# EAGLE library part KIS-3R33S (library KIS-3R33S)
DC-DC Converter
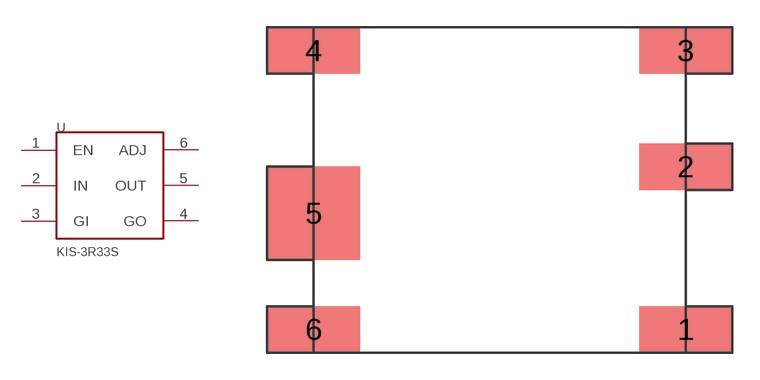
[diagram p0: symbol with the pads of KIS-3R33S; footprint KIS-3R33S]

Designator prefix -

## KIS-3R33S  [KIS-3R33S]
1  EN
2  IN
3  GI  pwr
4  GO  pwr
5  OUT
6  ADJ

## Footprint KIS-3R33S (pad centres in mm)
DC-DC Converter
smd 5.08 x 2.54: 1 10.16,-7.62; 2 10.16,1.27; 3 10.16,7.62; 4 -10.16,7.62; 6 -10.16,-7.62
smd 5.08 x 5.08: 5 -10.16,-1.27